# EAGLE library part BCM857BS-7-F (library BCM857BS-7-F)
Bipolar Transistors - BJT 45V Matched Pair PNP Bvceo -45V -100mA Source: Datasheet
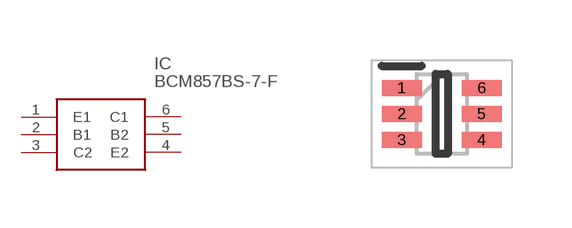
[diagram p0: symbol with the pads of SOT65P210X110-6N; footprint SOT65P210X110-6N]

Designator prefix IC

## BCM857BS-7-F (Description: Bipolar Transistors - BJT 45V Matched Pair PNP Bvceo -45V -100mA; Height: 1.1mm; Manufacturer_Name: Diodes Incorporated; Manufacturer_Part_Number: BCM857BS-7-F; Mouser_Part_Number: 621-BCM857BS-7-F; Mouser_Price-Stock: https://www.mouser.co.uk/ProductDetail/Diodes-Incorporated/BCM857BS-7-F?qs=60RJRzIpcl83Pda4UUWqGw%3D%3D)  [SOT65P210X110-6N]
1  E1
2  B1
3  C2
4  E2
5  B2
6  C1

## Footprint SOT65P210X110-6N (pad centres in mm)
sot363
smd 1 x 0.4: 1 -1,0.65; 2 -1,0; 3 -1,-0.65; 4 1,-0.65; 5 1,0; 6 1,0.65